# Altium footprint library STC15Wxx测试板封装库.PcbLib: 15 footprints
Each footprint in its own frame and in the unit in brackets; x right, y up, seen from the top. Pads: shape width x height; smd on the part's side, far side on the other; paste and mask are expansions set on the pad; w line width, h text height; cw(c..) or ccw(c..) is an arc to the next point about the centre after c.
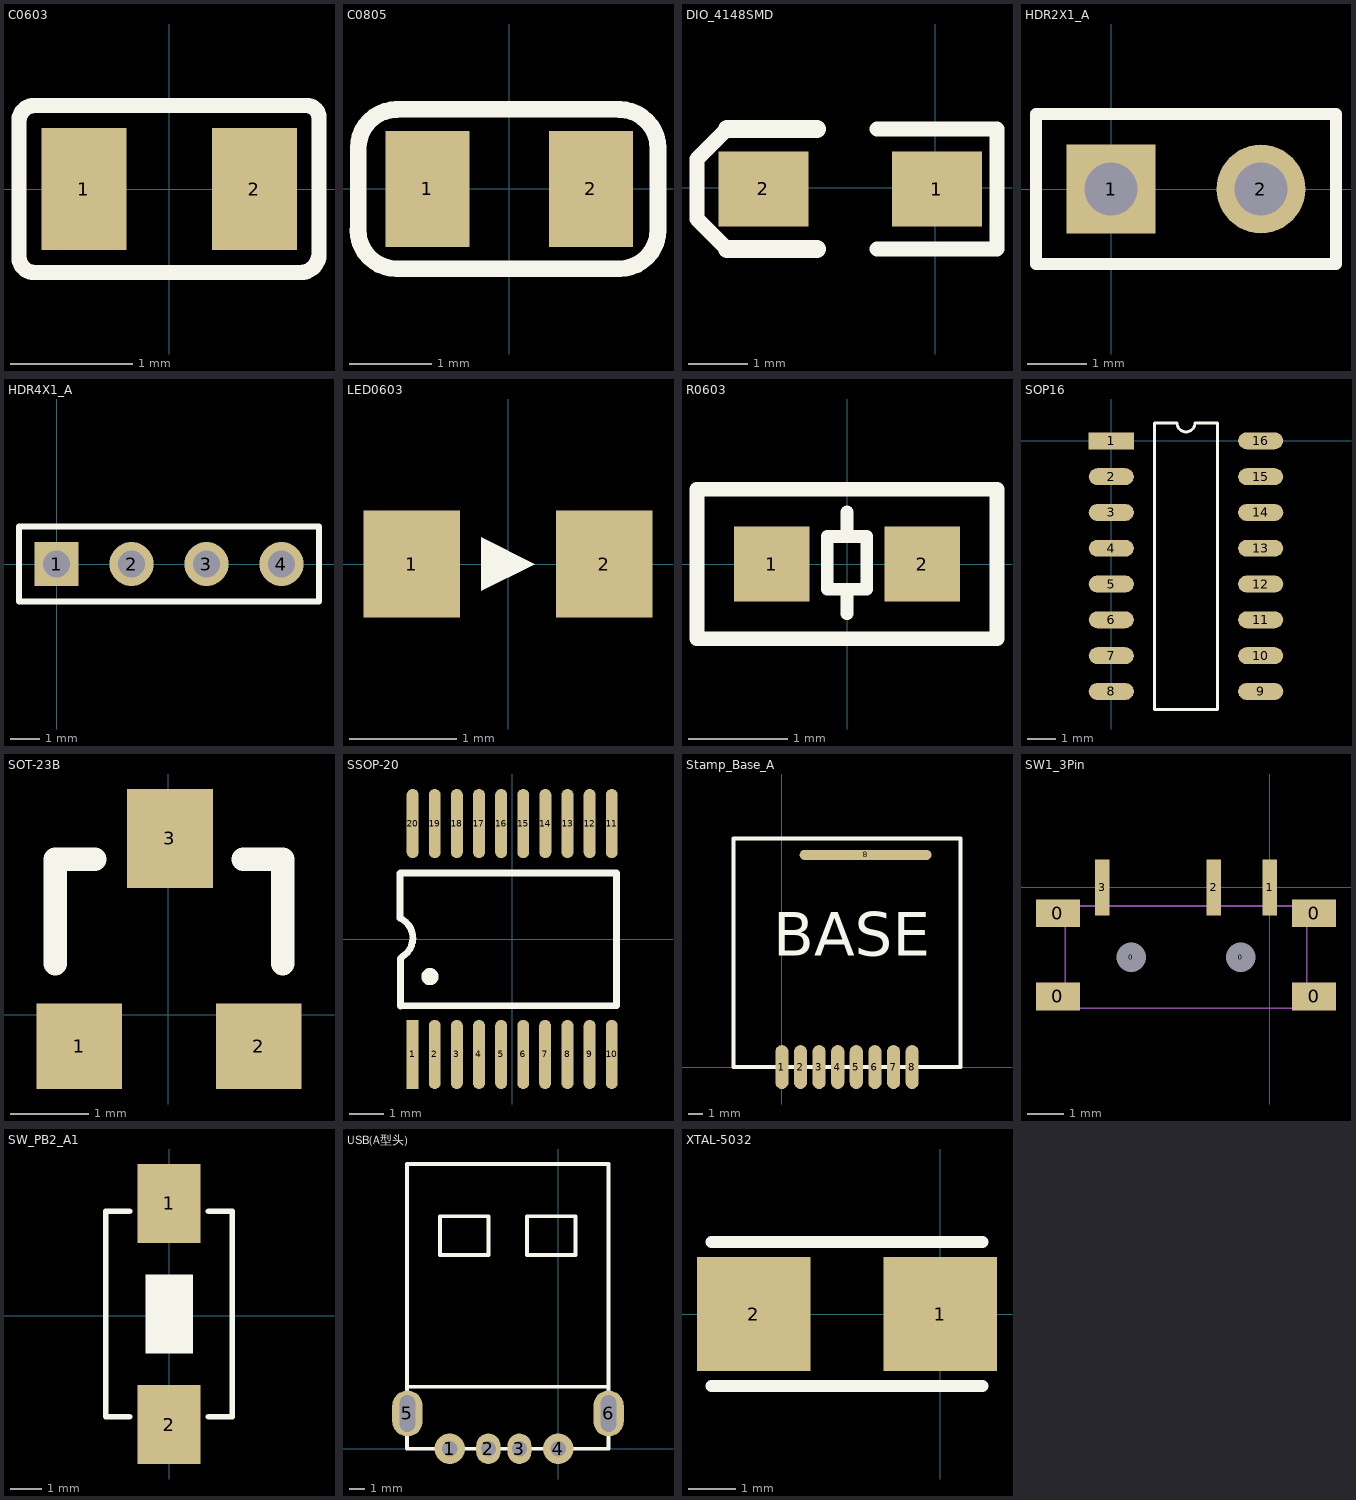
[diagram p0: the footprints below, top view; thin cyan lines are the x and y axes]

## C0603 [mm] "Chip Capacitors"
pads (2):
  rect 0.7x1 smd: 1(-0.7,0) 2(0.7,0)
Top Overlay:
  lines w0.127: 1.23,0.559 1.23,-0.533 cw(c1.078,-0.533) 1.078,-0.686 -1.106,-0.686 cw(c-1.106,-0.559) -1.233,-0.559 -1.233,0.559 cw(c-1.106,0.559) -1.106,0.686 1.129,0.686 cw(c1.129,0.584) 1.23,0.584
3D body: height 0.3, standoff 0, extent -0.814,-0.406 0.786,0.394

## C0805 [mil] "Chip Capacitors"
height 39.37
pads (2):
  rect 40x55.12 smd: 1(-39,0) 2(39,0)
Top Overlay:
  lines w8: -72.11,-19.59 ccw(c-53.7,-19.59) -53.7,-38 ; -72,-18.5 -72,18.5 ; -72,19.5 cw(c-53.59,19.5) -53.59,37.91 ; -54.12,38 53,38 ; -52.7,-38 53,-38 ; 52.59,-38 ccw(c52.59,-19.59) 71,-19.59 ; 52.59,37.91 cw(c52.59,19.5) 71,19.5 ; 71,-18.59 71,18.5
3D body: height 30.39, standoff -0.39, extent -39.37,-24.21 39.37,25

## DIO_4148SMD [mil]
pads (2):
  rect 60x50 smd: 1(1.16,-0.69) 2(-114.61,-0.6)
Top Overlay:
  lines w10: -138.84,-40.69 -158.84,-20.69 -158.84,19.31 -138.84,39.31 ; -38.84,-40.69 41.16,-40.69 41.16,39.31 -38.84,39.31
  lines w12: -138.84,-40.69 -78.84,-40.69 ; -138.84,39.31 -78.84,39.31

## HDR2X1_A [mm] "Connector; Header; 2X1 Position"
height 7.01
pads (2):
  rect 1.5x1.5 hole 0.9: 1(0,0)
  round 1.5 hole 0.9: 2(2.54,0)
Top Overlay:
  lines w0.2: -1.27,-1.27 -1.27,1.27 3.81,1.27 3.81,-1.27 -1.27,-1.27

## HDR4X1_A [mm] "Connector; Header; 4X1 Position"
height 1.6
pads (4):
  rect 1.5x1.5 hole 0.9: 1(0,0)
  round 1.5 hole 0.9: 2(2.54,0) 3(5.08,0) 4(7.62,0)
Top Overlay:
  lines w0.2: -1.27,-1.27 8.89,-1.27 8.89,1.27 -1.27,1.27 -1.27,-1.27

## LED0603 [mm]
pads (2):
  rect 0.9x1 smd: 1(-0.9,0) 2(0.9,0)
Top Overlay:
  region: -0.25,0.25 -0.25,-0.25 0.25,0

## R0603 [mil] "Chip resistor"
pads (2):
  rect 30x30 smd: 1(-30,0) 2(30,0)
Top Overlay:
  lines w5.12: 0,-19.8 0,-10.06 ; 0,10.94 0,20.67 ; -7.87,-10.06 -7.87,10.94 7.87,10.94 7.87,-10.06 -7.87,-10.06
  lines w5.91: -59.76,-29.76 -59.76,29.76 59.76,29.76 59.76,-29.76 -59.76,-29.76
3D body: height 17.72, standoff 0, extent -31.5,-16.5 31.5,15

## SOP16 [mm]
pads (16):
  rect 1.6x0.6 smd: 1(0,0)
  oval 1.6x0.6 smd: 2(0,-1.27) 3(0,-2.54) 4(0,-3.81) 5(0,-5.08) 6(0,-6.35) 7(0,-7.62) 8(0,-8.89) 9(5.3,-8.89) 10(5.3,-7.62) 11(5.3,-6.35) 12(5.3,-5.08) 13(5.3,-3.81) 14(5.3,-2.54) 15(5.3,-1.27) 16(5.3,0)
Top Overlay:
  lines w0.1: 1.535,-9.525 3.765,-9.525 3.765,0.635 2.967,0.635 cw(c2.65,0.635) 2.332,0.635 1.535,0.635 1.535,-9.525

## SOT-23B [mm] "SOT23, 3-Leads, Body 3.0x2.6mm (max), Pitch 0.95mm, IPC Medium Density"
pads (3):
  rect 1.1x1.1 smd: 1(-1.14,-0.4) 2(1.165,-0.4)
  rect 1.1x1.27 smd: 3(0.025,2.265)
Top Overlay:
  lines w0.305: -1.448,0.66 -1.448,2 -0.94,2 ; 0.965,2 1.473,2 1.473,0.66
3D body: height 0.5, standoff 0, extent -1.778,0 1.778,1.778
3D body: height 0.3, standoff 0, extent -0.381,1.778 0.381,2.286
3D body: height 0.3, standoff 0, extent -1.524,-0.508 -0.762,0
3D body: height 0.3, standoff 0, extent 0.762,-0.508 1.524,0

## SSOP-20 [mm]
height 0.508
pads (20):
  rect 0.35x2.032 smd: 1(-2.925,-3.391)
  oval 0.35x2.032 smd: 2(-2.275,-3.39) 3(-1.625,-3.391) 4(-0.975,-3.39) 5(-0.325,-3.39) 6(0.325,-3.39) 7(0.965,-3.39) 8(1.625,-3.391) 9(2.275,-3.39) 10(2.925,-3.39) 11(2.925,3.39) 12(2.275,3.391) 13(1.625,3.39) 14(0.975,3.391) 15(0.325,3.391) 16(-0.325,3.391) 17(-0.975,3.391) 18(-1.625,3.391) 19(-2.275,3.391) 20(-2.925,3.391)
Top Overlay:
  circle w0.254: c-2.417,-1.105 r0.127
  lines w0.127: -3.285,-1.963 -3.285,-1.964
  lines w0.198: -3.291,0.609 cw(c-3.552,0.03) -3.228,-0.516
  lines w0.2: -3.285,-1.964 3.065,-1.963 3.065,1.937 -3.285,1.937
  lines w0.203: -3.291,0.609 -3.291,1.93 -3.285,1.937 ; -3.285,-1.963 -3.285,-0.573 -3.228,-0.516

## Stamp_Base_A [mm] "邮票孔板框基板"
pads (9):
  oval 0.9x3 smd: 1(0,0) 2(1.27,0) 3(2.54,0) 4(3.81,0) 5(5.08,0) 6(6.35,0) 7(7.62,0) 8(8.89,0)
  oval 9x0.7 smd: 8(5.715,14.478)
Top Overlay:
  lines w0.254: -3.302,0 12.19,0 12.19,15.6 -3.302,15.6 -3.302,0
  text "BASE" at -0.6,6.6 h5.08

## SW1_3Pin [mil]
pads (9):
  rect 47.24x30 smd: 0(-227.8,-117.24) 0(-227.8,-27.76) 0(47.8,-117.24) 0(47.8,-27.76)
  round 10 hole 31.5: 0(-149.06,-75) 0(-30.94,-75)
  rect 15.75x60 smd: 1(0,0) 2(-60,0) 3(-180,0)
Mechanical 13:
  lines w2: -220,-130 40,-130 40,-20 -220,-20 -220,-130

## SW_PB2_A1 [mm] "贴片2Pin"
pads (2):
  rect 2x2.5 smd: 1(0,3.556) 2(0,-3.444)
Top Overlay:
  region: -0.747,1.309 -0.747,-1.191 0.753,-1.191 0.753,1.309
  lines w0.178: -1.25,-3.194 -2,-3.19 -2,3.306 -1.25,3.306 ; 1.25,-3.194 2,-3.194 2,3.306 1.25,3.306
3D body: height 0.8, standoff 0, extent -2.032,-3.175 2.032,3.302
3D body: height 1.2, standoff 0.8, extent -0.762,-1.143 0.762,1.27

## USB(A型头) [mm] "USB"
pads (6):
  round 2 hole 1: 1(-7.112,0) 4(0,0)
  oval 1.6x2 hole 1: 2(-4.572,0)
  oval 1.56x2 hole 1: 3(-2.54,0)
  oval 2x3 hole 1 slot 2.4 at 90 deg: 5(-9.881,2.311) 6(3.302,2.311)
Top Overlay:
  lines w0.254: -9.906,4.064 3.302,4.064 ; -9.906,0 -9.906,4.318 -9.906,18.669 3.302,18.669 3.302,4.318 3.302,0 -9.906,0 ; -7.747,12.7 -4.572,12.7 -4.572,15.24 -7.747,15.24 -7.747,12.7 ; -2.032,12.7 1.143,12.7 1.143,15.24 -2.032,15.24 -2.032,12.7

## XTAL-5032 [mm]
pads (2):
  rect 2.4x2.4 smd: 1(0,0) 2(-3.937,0)
Top Overlay:
  lines w0.254: -4.826,-1.524 0.889,-1.524 ; -4.826,1.524 0.889,1.524